# Altium schematic symbol library RES-0603-TEST.SchLib: 1 symbol
Pins are listed as number, name and electrical type; pins without a type are passive.

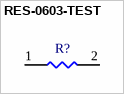
[diagram p0: symbol RES-0603-TEST]

## RES-0603-TEST
designator R?  (value not drawn)
Resistor library test 0603 package resistor
footprint RES0603 (Generic 0603)
pins: 1, 2